# Altium footprint library TDII_Lib.PcbLib: 53 footprints (part 3 of 4)
Each footprint in its own frame and in the unit in brackets; x right, y up, seen from the top. Pads: shape width x height; smd on the part's side, far side on the other; paste and mask are expansions set on the pad; w line width, h text height; cw(c..) or ccw(c..) is an arc to the next point about the centre after c.
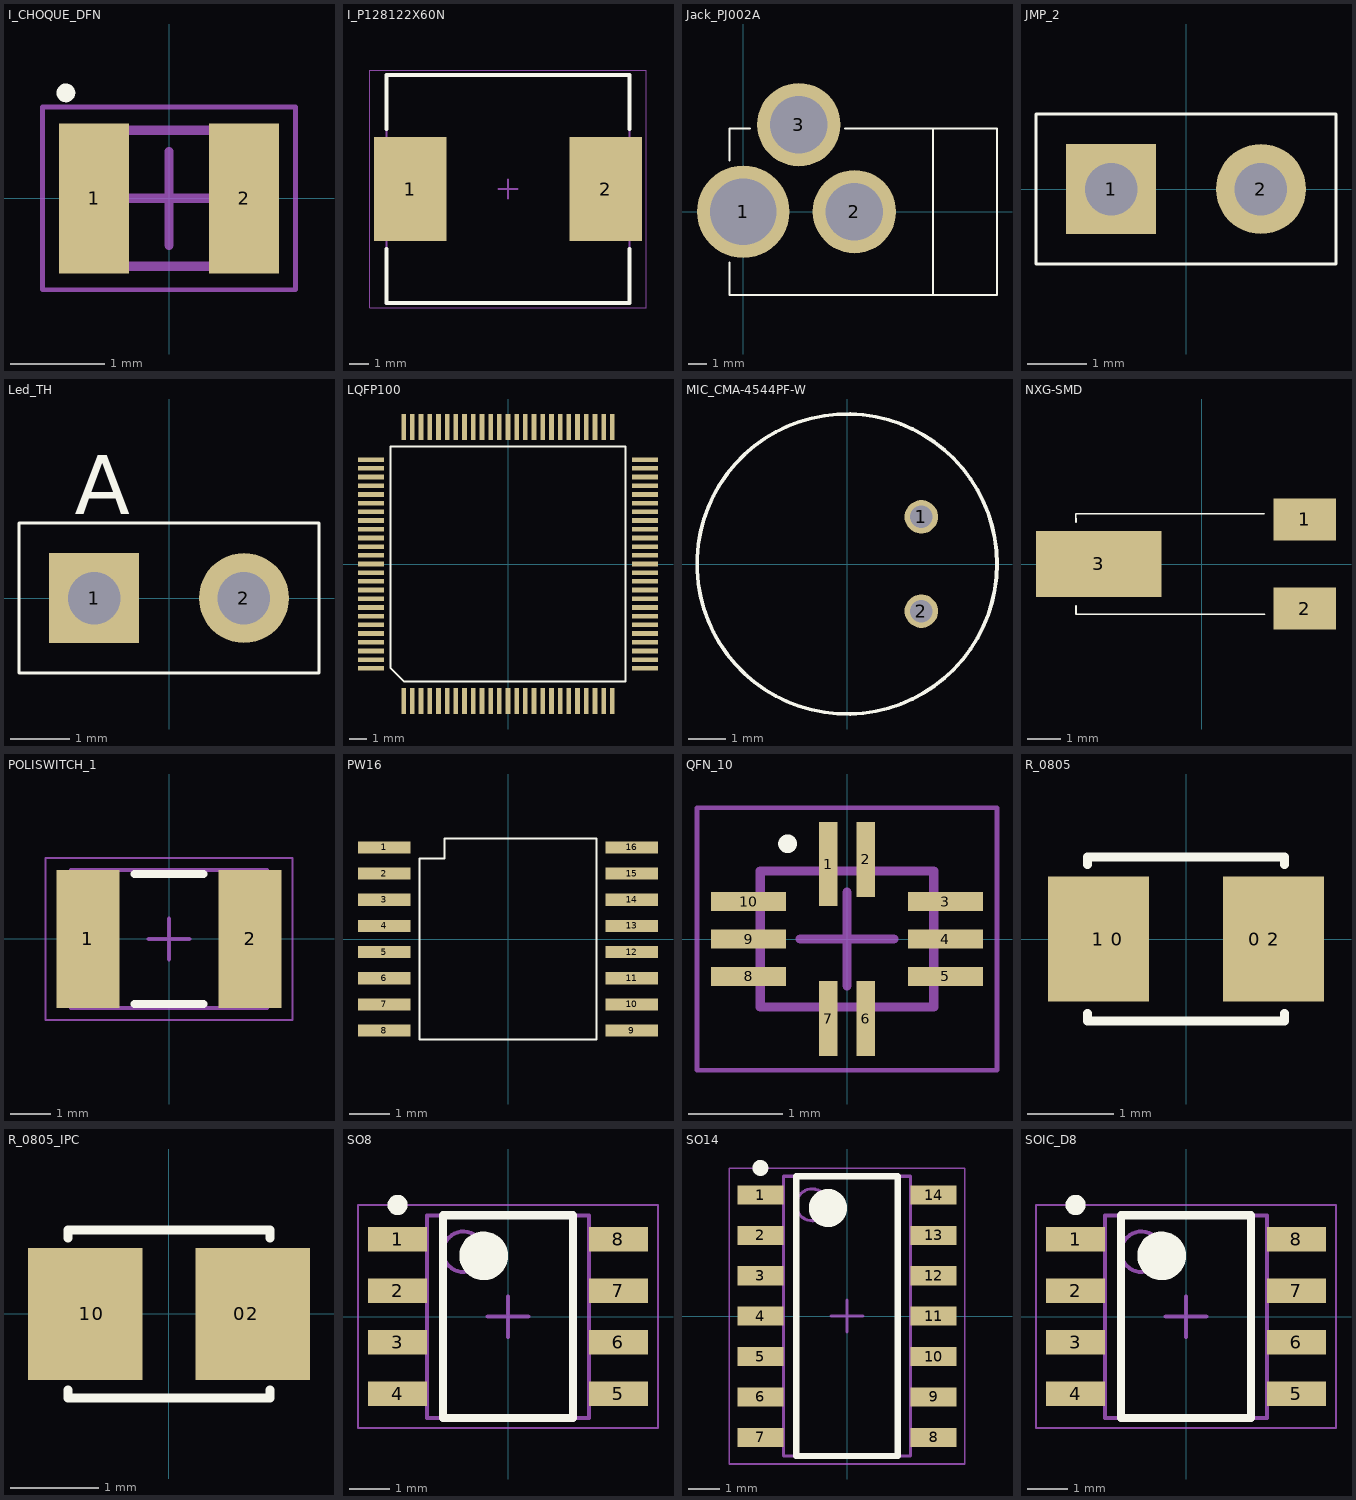
[diagram p2: the footprints below, top view; thin cyan lines are the x and y axes]

## I_CHOQUE_DFN [mm] "Chip Power Inductor BRC2012T2R2MD"
height 1.4
pads (2):
  rect 0.75x1.6 smd: 1(-0.8,0) 2(0.8,0)
Top Overlay:
  circle w0.1: c-1.1,1.125 r0.05
Mechanical 13:
  lines w0.1: -1.1,-0.725 1.1,-0.725 1.1,0.725 -1.1,0.725 -1.1,-0.725
Mechanical 15:
  lines w0.05: -1.35,-0.975 1.35,-0.975 1.35,0.975 -1.35,0.975 -1.35,-0.975
  lines w0.1: -0.5,0 0.5,0 ; 0,-0.5 0,0.5
3D body: height 1.4, standoff 0, extent -1.1,-0.725 1.1,0.725

## I_P128122X60N [mm] "Inductor SMD 744771147"
height 6
pads (2):
  rect 3.8x5.5 smd: 1(-30.9,13.75) 2(-20.6,13.75)
Top Overlay:
  lines w0.2: -32.15,10.6 -32.15,7.75 -19.35,7.75 -19.35,10.6 ; -32.15,16.9 -32.15,19.75 -19.35,19.75 -19.35,16.9
Mechanical 13:
  lines w0.1: -32.15,7.75 -19.35,7.75 -19.35,19.75 -32.15,19.75 -32.15,7.75
Mechanical 15:
  lines w0.05: -33.025,7.5 -18.475,7.5 -18.475,20 -33.025,20 -33.025,7.5
  lines w0.1: -26.25,13.75 -25.25,13.75 ; -25.75,13.25 -25.75,14.25
3D body: height 6, standoff 0, extent -32.15,7.75 -19.35,19.75

## Jack_PJ002A [mm]
height 8.509
pads (3):
  round 5 hole 3.6: 1(0,0)
  round 4.5 hole 3.1: 2(6,0) 3(3,4.7)
Top Overlay:
  lines w0.102: -0.75,-2.75 -0.75,-4.5 13.7,-4.5 13.7,4.5 5.5,4.5 ; -0.75,2.75 -0.75,4.5 0.375,4.5 ; 10.25,-4.5 10.25,4.5

## JMP_2 [mil]
pads (2):
  rect 60x60 hole 35 paste+0: 1(-50,0)
  round 60 hole 35 paste+0: 2(50,0)
Top Overlay:
  lines w2: -100,-50 100,-50 100,50 -100,50 -100,-50

## Led_TH [mil]
pads (2):
  rect 60x60 hole 35 paste+0: 1(-50,0)
  round 60 hole 35 paste+0: 2(50,0)
Top Overlay:
  lines w2: -100,-50 -100,50 100,50 100,-50 -100,-50
  text "A" at -63,56 h39.37

## LQFP100 [mm]
pads (100):
  rect 0.27x1.5 smd: 1(-6,-7.875) 2(-5.5,-7.875) 3(-5,-7.875) 4(-4.5,-7.875) 5(-4,-7.875) 6(-3.5,-7.875) 7(-3,-7.875) 8(-2.5,-7.875) 9(-2,-7.875) 10(-1.5,-7.875) 11(-1,-7.875) 12(-0.5,-7.875) 13(0,-7.875) 14(0.5,-7.875) 15(1,-7.875) 16(1.5,-7.875) 17(2,-7.875) 18(2.5,-7.875) 19(3,-7.875) 20(3.5,-7.875) 21(4,-7.875) 22(4.5,-7.875) 23(5,-7.875) 24(5.5,-7.875) 25(6,-7.875) 51(6,7.875) 52(5.5,7.875) 53(5,7.875) 54(4.5,7.875) 55(4,7.875) 56(3.5,7.875) 57(3,7.875) 58(2.5,7.875) 59(2,7.875) 60(1.5,7.875) 61(1,7.875) 62(0.5,7.875) 63(0,7.875) 64(-0.5,7.875) 65(-1,7.875) 66(-1.5,7.875) 67(-2,7.875) 68(-2.5,7.875) 69(-3,7.875) 70(-3.5,7.875) 71(-4,7.875) 72(-4.5,7.875) 73(-5,7.875) 74(-5.5,7.875) 75(-6,7.875)
  rect 1.5x0.27 smd: 26(7.875,-6) 27(7.875,-5.5) 28(7.875,-5) 29(7.875,-4.5) 30(7.875,-4) 31(7.875,-3.5) 32(7.875,-3) 33(7.875,-2.5) 34(7.875,-2) 35(7.875,-1.5) 36(7.875,-1) 37(7.875,-0.5) 38(7.875,0) 39(7.875,0.5) 40(7.875,1) 41(7.875,1.5) 42(7.875,2) 43(7.875,2.5) 44(7.875,3) 45(7.875,3.5) 46(7.875,4) 47(7.875,4.5) 48(7.875,5) 49(7.875,5.5) 50(7.875,6) 76(-7.875,6) 77(-7.875,5.5) 78(-7.875,5) 79(-7.875,4.5) 80(-7.875,4) 81(-7.875,3.5) 82(-7.875,3) 83(-7.875,2.5) 84(-7.875,2) 85(-7.875,1.5) 86(-7.875,1) 87(-7.875,0.5) 88(-7.875,0) 89(-7.875,-0.5) 90(-7.875,-1) 91(-7.875,-1.5) 92(-7.875,-2) 93(-7.875,-2.5) 94(-7.875,-3) 95(-7.875,-3.5) 96(-7.875,-4) 97(-7.875,-4.5) 98(-7.875,-5) 99(-7.875,-5.5) 100(-7.875,-6)
Top Overlay:
  lines w0.102: -6.75,-6 -6,-6.75 6.75,-6.75 6.75,6.75 -6.75,6.75 -6.75,0 -6.75,-6

## MIC_CMA-4544PF-W [mm] "CMA-4544PF-W"
pads (2):
  round 0.9 hole 0.6: 1(2,1.27) 2(2,-1.27)
Top Overlay:
  circle w0.1: c0,0 r4.036

## NXG-SMD [mm]
pads (3):
  rect 1.9x1.27 smd: 1(3.125,1.35) 2(3.125,-1.35)
  rect 3.8x2 smd: 3(-3.125,0)
Top Overlay:
  lines w0.051: -3.81,-1.27 -3.81,-1.524 1.905,-1.524 ; -3.81,1.27 -3.815,1.524 1.9,1.524

## POLISWITCH_1 [mm]
height 0.85
pads (2):
  rect 1.55x3.4 smd: 1(-2,0) 2(2,0)
Top Overlay:
  lines w0.2: -0.85,-1.6 0.85,-1.6 ; -0.85,1.6 0.85,1.6
Mechanical 13:
  lines w0.1: -2.415,-1.705 2.415,-1.705 2.415,1.705 -2.415,1.705 -2.415,-1.705
Mechanical 15:
  lines w0.05: -3.05,-2 3.05,-2 3.05,2 -3.05,2 -3.05,-2
  lines w0.1: -0.5,0 0.5,0 ; 0,-0.5 0,0.5
3D body: height 0.85, standoff 0, extent 1.815,-1.705 2.415,1.705
3D body: height 0.85, standoff 0, extent -2.415,-1.705 -1.815,1.705
3D body: height 0.85, standoff 0, extent -1.815,-1.705 1.815,1.705

## PW16 [mm]
pads (16):
  rect 1.3x0.3 smd: 1(-3.075,2.275) 2(-3.075,1.625) 3(-3.075,0.975) 4(-3.075,0.325) 5(-3.075,-0.325) 6(-3.075,-0.975) 7(-3.075,-1.625) 8(-3.075,-2.275) 9(3.075,-2.275) 10(3.075,-1.625) 11(3.075,-0.975) 12(3.075,-0.325) 13(3.075,0.325) 14(3.075,0.975) 15(3.075,1.625) 16(3.075,2.275)
Top Overlay:
  lines w0.051: -2.2,-2.5 2.2,-2.5 2.2,2.5 -1.575,2.5 -1.575,2 -2.2,2 -2.2,-2.5

## QFN_10 [mm] "TS3A5223RSWR, QFN, 10-Leads, Body 1,80x1,40mm"
height 0.55
pads (10):
  rect 0.2x0.9 smd: 1(-0.2,0.8)
  rect 0.2x0.8 smd: 2(0.2,0.85) 6(0.2,-0.85) 7(-0.2,-0.85)
  rect 0.8x0.2 smd: 3(1.05,0.4) 4(1.05,0) 5(1.05,-0.4) 8(-1.05,-0.4) 9(-1.05,0) 10(-1.05,0.4)
Top Overlay:
  circle w0.1: c-0.635,1.016 r0.05
Mechanical 13:
  lines w0.1: -0.925,-0.725 -0.925,0.725 0.925,0.725 0.925,-0.725 -0.925,-0.725
Mechanical 15:
  lines w0.05: -1.6,-1.4 -1.6,1.4 1.6,1.4 1.6,-1.4 -1.6,-1.4
  lines w0.1: -0.5,0 0.5,0 ; 0,-0.5 0,0.5
3D body: height 0.55, standoff 0.05, extent -0.925,-0.725 0.925,0.725

## R_0805 [mm]
height 0.6
pads (4):
  rect 0.4x1.25 on Mech3: 0(-0.8,0) 0(0.8,0)
  rect 1.175x1.45 smd: 1(-1.016,0) 2(1.016,0)
Top Overlay:
  lines w0.102: -1.143,-0.864 -1.143,-0.953 1.143,-0.953 1.143,-0.864 ; -1.143,0.864 -1.143,0.953 1.143,0.953 1.143,0.864

## R_0805_IPC [mm]
height 0.6
pads (4):
  rect 0.4x1.25 on Mech3: 0(-0.8,0) 0(0.8,0)
  rect 1.3x1.5 smd: 1(-0.95,0) 2(0.95,0)
Top Overlay:
  lines w0.102: -1.143,-0.864 -1.143,-0.953 1.143,-0.953 1.143,-0.864 ; -1.143,0.864 -1.143,0.953 1.143,0.953 1.143,0.864

## SO8 [mm] "Switching Regulator L5972D"
height 1.75
pads (8):
  rect 1.45x0.6 smd: 1(-2.725,1.905) 2(-2.725,0.635) 3(-2.725,-0.635) 4(-2.725,-1.905) 5(2.725,-1.905) 6(2.725,-0.635) 7(2.725,0.635) 8(2.725,1.905)
Top Overlay:
  circle w0.25: c-2.725,2.755 r0.125
  circle w0.6: c-0.6,1.5 r0.3
  lines w0.2: -1.6,-2.5 -1.6,2.5 1.6,2.5 1.6,-2.5 -1.6,-2.5
Mechanical 13:
  circle w0.1: c-1.1,1.6 r0.5
  lines w0.1: -2,-2.5 -2,2.5 2,2.5 2,-2.5 -2,-2.5
Mechanical 15:
  lines w0.05: -3.7,-2.75 -3.7,2.75 3.7,2.75 3.7,-2.75 -3.7,-2.75
  lines w0.1: -0.5,0 0.5,0 ; 0,-0.5 0,0.5
3D body: height 1.75, standoff 0.1, extent -2,-2.5 2,2.5

## SO14 [mm] "Quad_Bilateral_Switch 74LVC4066"
height 1.75
pads (14):
  rect 1.45x0.6 smd: 1(-2.725,3.81) 2(-2.725,2.54) 3(-2.725,1.27) 4(-2.725,0) 5(-2.725,-1.27) 6(-2.725,-2.54) 7(-2.725,-3.81) 8(2.725,-3.81) 9(2.725,-2.54) 10(2.725,-1.27) 11(2.725,0) 12(2.725,1.27) 13(2.725,2.54) 14(2.725,3.81)
Top Overlay:
  circle w0.25: c-2.725,4.66 r0.125
  circle w0.6: c-0.6,3.4 r0.3
  lines w0.2: -1.6,-4.4 -1.6,4.4 1.6,4.4 1.6,-4.4 -1.6,-4.4
Mechanical 13:
  circle w0.1: c-1.1,3.5 r0.5
  lines w0.1: -2,-4.4 -2,4.4 2,4.4 2,-4.4 -2,-4.4
Mechanical 15:
  lines w0.05: -3.7,-4.65 -3.7,4.65 3.7,4.65 3.7,-4.65 -3.7,-4.65
  lines w0.1: -0.5,0 0.5,0 ; 0,-0.5 0,0.5
3D body: height 1.75, standoff 0.1, extent -2,-4.4 2,4.4

## SOIC_D8 [mm] "MCP6022"
height 1.75
pads (8):
  rect 1.45x0.6 smd: 1(-2.725,1.905) 2(-2.725,0.635) 3(-2.725,-0.635) 4(-2.725,-1.905) 5(2.725,-1.905) 6(2.725,-0.635) 7(2.725,0.635) 8(2.725,1.905)
Top Overlay:
  circle w0.6: c-0.6,1.5 r0.3
  circle w0.25: c-2.725,2.755 r0.125
  lines w0.2: -1.6,-2.5 1.6,-2.5 1.6,2.5 -1.6,2.5 -1.6,-2.5
Mechanical 13:
  circle w0.1: c-1.1,1.6 r0.5
  lines w0.1: -2,-2.5 2,-2.5 2,2.5 -2,2.5 -2,-2.5
Mechanical 15:
  lines w0.05: -3.7,-2.75 3.7,-2.75 3.7,2.75 -3.7,2.75 -3.7,-2.75
  lines w0.1: -0.5,0 0.5,0 ; 0,-0.5 0,0.5
3D body: height 1.75, standoff 0.1, extent -2,-2.5 2,2.5